# Altium integrated library Analog Devices Interface and Isolation Protection Products.IntLib: 92 symbols (part 5 of 5)
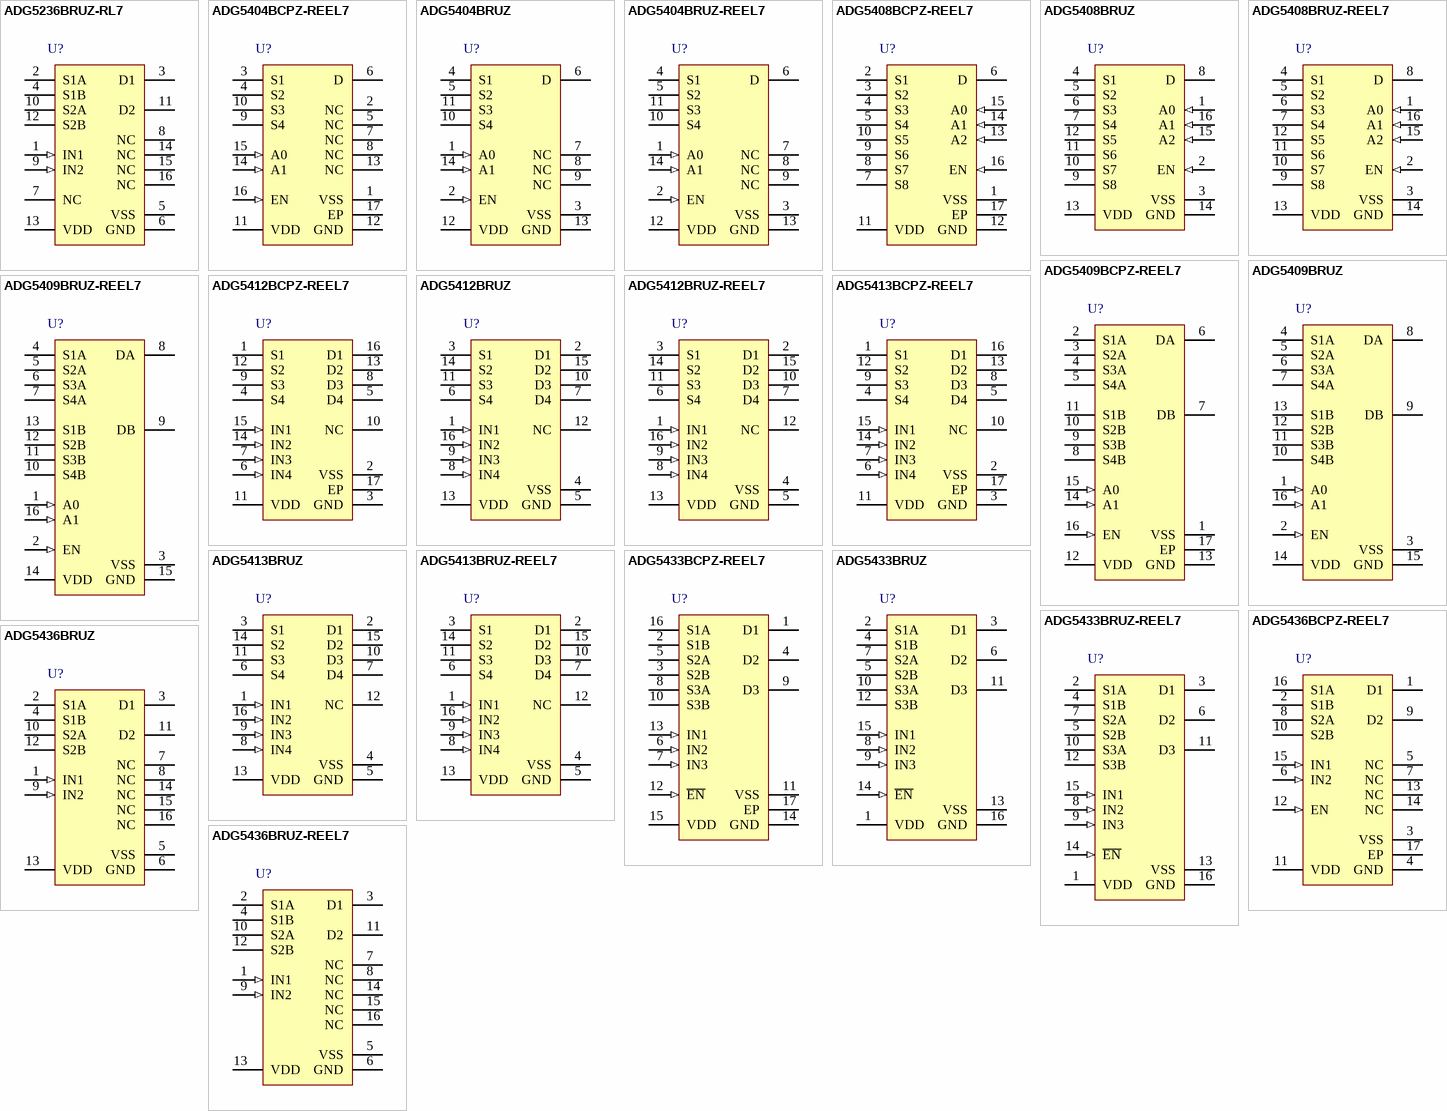
[diagram p6: symbols ADG5236BRUZ-RL7 to ADG5436BRUZ-REEL7]

## ADG5412BCPZ-REEL7
designator U?
High Voltage Latch-Up Proof, Quad SPST Switches, -40 to 125 degC, 16-pin QFN (CP-16-17), Reel; Manufacturer: Analog Devices; PartNumber: ADG5412BCPZ-REEL7; Id, Is (ON): 100pA, 100pA, 100pA, 100pA; Is OFF: 50pA, 50pA, 50pA, 50pA; Power Dissipation: 1mW; Ron (ohms): 9; DatasheetVersion: Rev. A; PackageVersion: 08-16-2010-C; PackageReference: CP-16-17; PackageDescription: 16-Pin Lead Frame Chip Scale Package, Body 4 x 4 mm, Pitch 0.65 mm; Supplier 1: Digi-Key; Supplier Part Number 1: ADG5412BCPZ-REEL7CT-ND; Supplier 2: Digi-Key; Supplier Part Number 2: ADG5412BCPZ-REEL7DKR-ND; Supplier 3: Newark; Supplier Part Number 3: 27T3793; Supplier 4: Newark; Supplier Part Number 4: 92T1801; Supplier 5: Mouser; Supplier Part Number 5: N/A; Configuration: SPST; Packing: Reel; Mounting Technology: Surface Mount; Code_JEDEC: MO-220-WGGC; ComponentLink1Description: Manufacturer URL; ComponentLink1URL: http://www.analog.com/en/index.html; ComponentLink2Description: Datasheet; ComponentLink2URL: http://www.analog.com/static/imported-files/data_sheets/ADG5412_5413.pdf; ComponentLink3Description: Package Specification; ComponentLink3URL: http://www.analog.com/static/imported-files/packages/PKG_PDF/LFCSP(CP)/CP_16_17.pdf
footprint ADI-CP-16-17_N (QFN, 16-Leads, Body 4x4mm, Pitch 0.65mm, Thermal Pad 2.60x2.60mm, IPC Medium Density)
footprint ADI-CP-16-17_L (QFN, 16-Leads, Body 4x4mm, Pitch 0.65mm, Thermal Pad 2.60x2.60mm, IPC High Density)
footprint ADI-CP-16-17_M (QFN, 16-Leads, Body 4x4mm, Pitch 0.65mm, Thermal Pad 2.60x2.60mm, IPC Low Density)
pins: 1 S1 "Source Terminal 1. This pin can be an input or output.", 2 VSS (power) "Most Negative Power Supply Potential.", 3 GND (power) "Ground (0 V) Reference.", 4 S4 "Source Terminal 4. This pin can be an input or output.", 5 D4 "Drain Terminal 4. This pin can be an input or output.", 6 IN4 (in) "Logic Control Input 4.", 7 IN3 (in) "Logic Control Input 3.", 8 D3 "Drain Terminal 3. This pin can be an input or output.", 9 S3 "Source Terminal 3. This pin can be an input or output.", 10 NC "No Connection.", 11 VDD (power) "Most Positive Power Supply Potential.", 12 S2 "Source Terminal 2. This pin can be an input or output.", 13 D2 "Drain Terminal 2. This pin can be an input or output.", 14 IN2 (in) "Logic Control Input 2.", 15 IN1 (in) "Logic Control Input 1.", 16 D1 "Drain Terminal 1. This pin can be an input or output.", 17 EP (power) "The exposed pad is connected internally. For increased reliability of the solder joints and maximum thermal capability, it is recommended that the pad be soldered to the substrate, VSS."

## ADG5412BRUZ
designator U?
High Voltage Latch-Up Proof, Quad SPST Switches, -40 to 125 degC, 16-pin SOP (RU-16), Tube; Manufacturer: Analog Devices; PartNumber: ADG5412BRUZ; Id, Is (ON): 100pA, 100pA, 100pA, 100pA; Is OFF: 50pA, 50pA, 50pA, 50pA; Power Dissipation: 1mW; Ron (ohms): 9; DatasheetVersion: Rev. A; PackageVersion: Nov-02; PackageReference: RU-16; PackageDescription: 16-Pin Thin Shrink Small Outline Package, Body 5 x 4.4 mm, Pitch 0.65 mm; Supplier 1: Digi-Key; Supplier Part Number 1: ADG5412BRUZ-ND; Supplier 2: Farnell; Supplier Part Number 2: 2081057; Supplier 3: Newark; Supplier Part Number 3: 85R6320; Supplier 4: Mouser; Supplier Part Number 4: 584-ADG5412BRUZ; Configuration: SPST; Packing: Tube; Mounting Technology: Surface Mount; Code_JEDEC: MO-153AB; ComponentLink1Description: Manufacturer URL; ComponentLink1URL: http://www.analog.com/en/index.html; ComponentLink2Description: Datasheet; ComponentLink2URL: http://www.analog.com/static/imported-files/data_sheets/ADG5412_5413.pdf; ComponentLink3Description: Package Specification; ComponentLink3URL: http:/www.analog.com/static/imported-files/packages/36244347913743854010197452789RU16.pdf
footprint ADI-RU-16_N (SOP, 16-Leads, Body 5x4.4mm, Pitch 0.65mm, IPC Medium Density)
footprint ADI-RU-16_L (SOP, 16-Leads, Body 5x4.4mm, Pitch 0.65mm, IPC High Density)
footprint ADI-RU-16_M (SOP, 16-Leads, Body 5x4.4mm, Pitch 0.65mm, IPC Low Density)
pins: 1 IN1 (in) "Logic Control Input 1.", 2 D1 "Drain Terminal 1. This pin can be an input or output.", 3 S1 "Source Terminal 1. This pin can be an input or output.", 4 VSS (power) "Most Negative Power Supply Potential.", 5 GND (power) "Ground (0 V) Reference.", 6 S4 "Source Terminal 4. This pin can be an input or output.", 7 D4 "Drain Terminal 4. This pin can be an input or output.", 8 IN4 (in) "Logic Control Input 4.", 9 IN3 (in) "Logic Control Input 3.", 10 D3 "Drain Terminal 3. This pin can be an input or output.", 11 S3 "Source Terminal 3. This pin can be an input or output.", 12 NC "No Connection.", 13 VDD (power) "Most Positive Power Supply Potential.", 14 S2 "Source Terminal 2. This pin can be an input or output.", 15 D2 "Drain Terminal 2. This pin can be an input or output.", 16 IN2 (in) "Logic Control Input 2."

## ADG5412BRUZ-REEL7
designator U?
High Voltage Latch-Up Proof, Quad SPST Switches, -40 to 125 degC, 16-pin SOP (RU-16), Reel; Manufacturer: Analog Devices; PartNumber: ADG5412BRUZ-REEL7; Id, Is (ON): 100pA, 100pA, 100pA, 100pA; Is OFF: 50pA, 50pA, 50pA, 50pA; Power Dissipation: 1mW; Ron (ohms): 9; DatasheetVersion: Rev. A; PackageVersion: Nov-02; PackageReference: RU-16; PackageDescription: 16-Pin Thin Shrink Small Outline Package, Body 5 x 4.4 mm, Pitch 0.65 mm; Supplier 1: Digi-Key; Supplier Part Number 1: ADG5412BRUZ-REEL7TR-ND; Supplier 2: Digi-Key; Supplier Part Number 2: ADG5412BRUZ-REEL7CT-ND; Supplier 3: Digi-Key; Supplier Part Number 3: ADG5412BRUZ-REEL7DKR-ND; Supplier 4: Farnell; Supplier Part Number 4: 2102712; Supplier 5: Newark; Supplier Part Number 5: 92T1802; Supplier 6: Newark; Supplier Part Number 6: 85R6321; Supplier 7: Mouser; Supplier Part Number 7: 584-ADG5412BRUZ-R7; Configuration: SPST; Packing: Reel; Mounting Technology: Surface Mount; Code_JEDEC: MO-153AB; ComponentLink1Description: Manufacturer URL; ComponentLink1URL: http://www.analog.com/en/index.html; ComponentLink2Description: Datasheet; ComponentLink2URL: http://www.analog.com/static/imported-files/data_sheets/ADG5412_5413.pdf; ComponentLink3Description: Package Specification; ComponentLink3URL: http:/www.analog.com/static/imported-files/packages/36244347913743854010197452789RU16.pdf
footprint ADI-RU-16_N (SOP, 16-Leads, Body 5x4.4mm, Pitch 0.65mm, IPC Medium Density)
footprint ADI-RU-16_L (SOP, 16-Leads, Body 5x4.4mm, Pitch 0.65mm, IPC High Density)
footprint ADI-RU-16_M (SOP, 16-Leads, Body 5x4.4mm, Pitch 0.65mm, IPC Low Density)
pins: 1 IN1 (in) "Logic Control Input 1.", 2 D1 "Drain Terminal 1. This pin can be an input or output.", 3 S1 "Source Terminal 1. This pin can be an input or output.", 4 VSS (power) "Most Negative Power Supply Potential.", 5 GND (power) "Ground (0 V) Reference.", 6 S4 "Source Terminal 4. This pin can be an input or output.", 7 D4 "Drain Terminal 4. This pin can be an input or output.", 8 IN4 (in) "Logic Control Input 4.", 9 IN3 (in) "Logic Control Input 3.", 10 D3 "Drain Terminal 3. This pin can be an input or output.", 11 S3 "Source Terminal 3. This pin can be an input or output.", 12 NC "No Connection.", 13 VDD (power) "Most Positive Power Supply Potential.", 14 S2 "Source Terminal 2. This pin can be an input or output.", 15 D2 "Drain Terminal 2. This pin can be an input or output.", 16 IN2 (in) "Logic Control Input 2."

## ADG5413BCPZ-REEL7
designator U?
High Voltage Latch-Up Proof,Quad SPST Switches, -40 to 125 degC, 16-pin QFN (CP-16-17), Reel; Manufacturer: Analog Devices; PartNumber: ADG5413BCPZ-REEL7; Id, Is (ON): 100pA, 100pA, 100pA, 100pA; Is OFF: 50pA, 50pA, 50pA, 50pA; Power Dissipation: 1mW; Ron (ohms): 9; DatasheetVersion: Rev. A; PackageVersion: 08-16-2010-C; PackageReference: CP-16-17; PackageDescription: 16-Pin Lead Frame Chip Scale Package, Body 4 x 4 mm, Pitch 0.65 mm; Supplier 1: Digi-Key; Supplier Part Number 1: ADG5413BCPZ-REEL7CT-ND; Supplier 2: Digi-Key; Supplier Part Number 2: ADG5413BCPZ-REEL7DKR-ND; Supplier 3: Farnell; Supplier Part Number 3: 2102713; Supplier 4: Newark; Supplier Part Number 4: 92T1803; Supplier 5: Newark; Supplier Part Number 5: 27T3794; Supplier 6: Mouser; Supplier Part Number 6: N/A; Configuration: SPST; Packing: Reel; Mounting Technology: Surface Mount; Code_JEDEC: MO-220-WGGC; ComponentLink1Description: Manufacturer URL; ComponentLink1URL: http://www.analog.com/en/index.html; ComponentLink2Description: Datasheet; ComponentLink2URL: http://www.analog.com/static/imported-files/data_sheets/ADG5412_5413.pdf; ComponentLink3Description: Package Specification; ComponentLink3URL: http://www.analog.com/static/imported-files/packages/PKG_PDF/LFCSP(CP)/CP_16_17.pdf
footprint ADI-CP-16-17_N (QFN, 16-Leads, Body 4x4mm, Pitch 0.65mm, Thermal Pad 2.60x2.60mm, IPC Medium Density)
footprint ADI-CP-16-17_L (QFN, 16-Leads, Body 4x4mm, Pitch 0.65mm, Thermal Pad 2.60x2.60mm, IPC High Density)
footprint ADI-CP-16-17_M (QFN, 16-Leads, Body 4x4mm, Pitch 0.65mm, Thermal Pad 2.60x2.60mm, IPC Low Density)
pins: 1 S1 "Source Terminal 1. This pin can be an input or output.", 2 VSS (power) "Most Negative Power Supply Potential.", 3 GND (power) "Ground (0 V) Reference.", 4 S4 "Source Terminal 4. This pin can be an input or output.", 5 D4 "Drain Terminal 4. This pin can be an input or output.", 6 IN4 (in) "Logic Control Input 4.", 7 IN3 (in) "Logic Control Input 3.", 8 D3 "Drain Terminal 3. This pin can be an input or output.", 9 S3 "Source Terminal 3. This pin can be an input or output.", 10 NC "No Connection.", 11 VDD (power) "Most Positive Power Supply Potential.", 12 S2 "Source Terminal 2. This pin can be an input or output.", 13 D2 "Drain Terminal 2. This pin can be an input or output.", 14 IN2 (in) "Logic Control Input 2.", 15 IN1 (in) "Logic Control Input 1.", 16 D1 "Drain Terminal 1. This pin can be an input or output.", 17 EP (power) "The exposed pad is connected internally. For increased reliability of the solder joints and maximum thermal capability, it is recommended that the pad be soldered to the substrate, VSS."

## ADG5413BRUZ
designator U?
High Voltage Latch-Up Proof,Quad SPST Switches, -40 to 125 degC, 16-pin SOP (RU-16), Tube; Manufacturer: Analog Devices; PartNumber: ADG5413BRUZ; Id, Is (ON): 100pA, 100pA, 100pA, 100pA; Is OFF: 50pA, 50pA, 50pA, 50pA; Power Dissipation: 1mW; Ron (ohms): 9; DatasheetVersion: Rev. A; PackageVersion: Nov-02; PackageReference: RU-16; PackageDescription: 16-Pin Thin Shrink Small Outline Package, Body 5 x 4.4 mm, Pitch 0.65 mm; Supplier 1: Digi-Key; Supplier Part Number 1: ADG5413BRUZ-ND; Supplier 2: Farnell; Supplier Part Number 2: 2081056; Supplier 3: Newark; Supplier Part Number 3: 85R6322; Supplier 4: Mouser; Supplier Part Number 4: 584-ADG5413BRUZ; Configuration: SPST; Packing: Tube; Mounting Technology: Surface Mount; Code_JEDEC: MO-153AB; ComponentLink1Description: Manufacturer URL; ComponentLink1URL: http://www.analog.com/en/index.html; ComponentLink2Description: Datasheet; ComponentLink2URL: http://www.analog.com/static/imported-files/data_sheets/ADG5412_5413.pdf; ComponentLink3Description: Package Specification; ComponentLink3URL: http:/www.analog.com/static/imported-files/packages/36244347913743854010197452789RU16.pdf
footprint ADI-RU-16_N (SOP, 16-Leads, Body 5x4.4mm, Pitch 0.65mm, IPC Medium Density)
footprint ADI-RU-16_L (SOP, 16-Leads, Body 5x4.4mm, Pitch 0.65mm, IPC High Density)
footprint ADI-RU-16_M (SOP, 16-Leads, Body 5x4.4mm, Pitch 0.65mm, IPC Low Density)
pins: 1 IN1 (in) "Logic Control Input 1.", 2 D1 "Drain Terminal 1. This pin can be an input or output.", 3 S1 "Source Terminal 1. This pin can be an input or output.", 4 VSS (power) "Most Negative Power Supply Potential.", 5 GND (power) "Ground (0 V) Reference.", 6 S4 "Source Terminal 4. This pin can be an input or output.", 7 D4 "Drain Terminal 4. This pin can be an input or output.", 8 IN4 (in) "Logic Control Input 4.", 9 IN3 (in) "Logic Control Input 3.", 10 D3 "Drain Terminal 3. This pin can be an input or output.", 11 S3 "Source Terminal 3. This pin can be an input or output.", 12 NC "No Connection.", 13 VDD (power) "Most Positive Power Supply Potential.", 14 S2 "Source Terminal 2. This pin can be an input or output.", 15 D2 "Drain Terminal 2. This pin can be an input or output.", 16 IN2 (in) "Logic Control Input 2."

## ADG5413BRUZ-REEL7
designator U?
High Voltage Latch-Up Proof,Quad SPST Switches, -40 to 125 degC, 16-pin SOP (RU-16), Reel; Manufacturer: Analog Devices; PartNumber: ADG5413BRUZ-REEL7; Id, Is (ON): 100pA, 100pA, 100pA, 100pA; Is OFF: 50pA, 50pA, 50pA, 50pA; Power Dissipation: 1mW; Ron (ohms): 9; DatasheetVersion: Rev. A; PackageVersion: Nov-02; PackageReference: RU-16; PackageDescription: 16-Pin Thin Shrink Small Outline Package, Body 5 x 4.4 mm, Pitch 0.65 mm; Supplier 1: Digi-Key; Supplier Part Number 1: ADG5413BRUZ-REEL7-ND; Supplier 2: Farnell; Supplier Part Number 2: 2102714; Supplier 3: Newark; Supplier Part Number 3: 92T1804; Supplier 4: Newark; Supplier Part Number 4: 85R6323; Supplier 5: Mouser; Supplier Part Number 5: 584-ADG5413BRUZ-R7; Configuration: SPST; Packing: Reel; Mounting Technology: Surface Mount; Code_JEDEC: MO-153AB; ComponentLink1Description: Manufacturer URL; ComponentLink1URL: http://www.analog.com/en/index.html; ComponentLink2Description: Datasheet; ComponentLink2URL: http://www.analog.com/static/imported-files/data_sheets/ADG5412_5413.pdf; ComponentLink3Description: Package Specification; ComponentLink3URL: http:/www.analog.com/static/imported-files/packages/36244347913743854010197452789RU16.pdf
footprint ADI-RU-16_N (SOP, 16-Leads, Body 5x4.4mm, Pitch 0.65mm, IPC Medium Density)
footprint ADI-RU-16_L (SOP, 16-Leads, Body 5x4.4mm, Pitch 0.65mm, IPC High Density)
footprint ADI-RU-16_M (SOP, 16-Leads, Body 5x4.4mm, Pitch 0.65mm, IPC Low Density)
pins: 1 IN1 (in) "Logic Control Input 1.", 2 D1 "Drain Terminal 1. This pin can be an input or output.", 3 S1 "Source Terminal 1. This pin can be an input or output.", 4 VSS (power) "Most Negative Power Supply Potential.", 5 GND (power) "Ground (0 V) Reference.", 6 S4 "Source Terminal 4. This pin can be an input or output.", 7 D4 "Drain Terminal 4. This pin can be an input or output.", 8 IN4 (in) "Logic Control Input 4.", 9 IN3 (in) "Logic Control Input 3.", 10 D3 "Drain Terminal 3. This pin can be an input or output.", 11 S3 "Source Terminal 3. This pin can be an input or output.", 12 NC "No Connection.", 13 VDD (power) "Most Positive Power Supply Potential.", 14 S2 "Source Terminal 2. This pin can be an input or output.", 15 D2 "Drain Terminal 2. This pin can be an input or output.", 16 IN2 (in) "Logic Control Input 2."

## ADG5433BCPZ-REEL7
designator U?
High Voltage Latch-Up Proof, Triple SPDT Switches, 12.5 Ohm Ron, 16-pin QFN (CP-16-17), Reel; Manufacturer: Analog Devices; PartNumber: ADG5433BCPZ-REEL7; # Sw Functions: 3; Max Neg Supply: -22V; Max Pos Supply: +40V; Ron (ohms): 13.5, 12.5, 26, 14.5; t ON: 160ns, 152ns, 228ns, 176ns; DatasheetVersion: Rev. B; PackageVersion: 08-16-2010-C; PackageReference: CP-16-17; PackageDescription: 16-Pin Lead Frame Chip Scale Package, Body 4 x 4 mm, Pitch 0.65 mm; Supplier 1: Digi-Key; Supplier Part Number 1: ADG5433BCPZ-REEL7CT-ND; Supplier 2: Digi-Key; Supplier Part Number 2: ADG5433BCPZ-REEL7DKR-ND; Supplier 3: Farnell; Supplier Part Number 3: 2102715; Supplier 4: Newark; Supplier Part Number 4: 27T3795; Supplier 5: Newark; Supplier Part Number 5: 92T1805; Supplier 6: Mouser; Supplier Part Number 6: N/A; Configuration: SPDT; Packing: Reel; Mounting Technology: Surface Mount; Code_JEDEC: MO-220-WGGC; ComponentLink1Description: Manufacturer URL; ComponentLink1URL: http://www.analog.com/en/index.html; ComponentLink2Description: Datasheet; ComponentLink2URL: http://www.analog.com/static/imported-files/data_sheets/ADG5433_5434.pdf; ComponentLink3Description: Package Specification; ComponentLink3URL: http://www.analog.com/static/imported-files/packages/PKG_PDF/LFCSP(CP)/CP_16_17.pdf
footprint ADI-CP-16-17_N (QFN, 16-Leads, Body 4x4mm, Pitch 0.65mm, Thermal Pad 2.60x2.60mm, IPC Medium Density)
footprint ADI-CP-16-17_L (QFN, 16-Leads, Body 4x4mm, Pitch 0.65mm, Thermal Pad 2.60x2.60mm, IPC High Density)
footprint ADI-CP-16-17_M (QFN, 16-Leads, Body 4x4mm, Pitch 0.65mm, Thermal Pad 2.60x2.60mm, IPC Low Density)
pins: 1 D1 "Drain Terminal 1. This pin can be an input or an output.", 2 S1B "Source Terminal 1B. This pin can be an input or an output.", 3 S2B "Source Terminal 1B. This pin can be an input or an output.", 4 D2 "Drain Terminal 1. This pin can be an input or an output.", 5 S2A "Source Terminal 1A. This pin can be an input or an output.", 6 IN2 (in) "Logic Control Input 2.", 7 IN3 (in) "Logic Control Input 3.", 8 S3A "Source Terminal 1A. This pin can be an input or an output.", 9 D3 "Drain Terminal 1. This pin can be an input or an output.", 10 S3B "Source Terminal 1B. This pin can be an input or an output.", 11 VSS (power) "Most Negative Power Supply Potential. In single-supply applications, this pin can be connected to ground.", 12 ~{EN} (in) "Active High Digital Input. When low, the device is disabled and all switches are off. When high, Ax logic inputs determine on switches.", 13 IN1 (in) "Logic Control Input 1.", 14 GND (power) "Ground (0 V) Reference.", 15 VDD (power) "Most Positive Power Supply Potential.", 16 S1A "Source Terminal 1A. This pin can be an input or an output.", 17 EP (power) "The exposed pad is connected internally. For increased reliability of the solder joints and maximum thermal capability, it is recommended that the pad be soldered to the substrate, VSS."

## ADG5433BRUZ
designator U?
High Voltage Latch-Up Proof, Triple SPDT Switches, 12.5 Ohm Ron, 16-pin SOP (RU-16), Tube; Manufacturer: Analog Devices; PartNumber: ADG5433BRUZ; # Sw Functions: 3; Max Neg Supply: -22V; Max Pos Supply: +40V; Ron (ohms): 13.5, 12.5, 26, 14.5; t ON: 160ns, 152ns, 228ns, 176ns; DatasheetVersion: Rev. B; PackageVersion: Nov-02; PackageReference: RU-16; PackageDescription: 16-Pin Thin Shrink Small Outline Package, Body 5 x 4.4 mm, Pitch 0.65 mm; Supplier 1: Digi-Key; Supplier Part Number 1: ADG5433BRUZ-ND; Supplier 2: Farnell; Supplier Part Number 2: 2081058; Supplier 3: Newark; Supplier Part Number 3: 18T1964; Supplier 4: Mouser; Supplier Part Number 4: 584-ADG5433BRUZ; Configuration: SPDT; Packing: Tube; Mounting Technology: Surface Mount; Code_JEDEC: MO-153AB; ComponentLink1Description: Manufacturer URL; ComponentLink1URL: http://www.analog.com/en/index.html; ComponentLink2Description: Datasheet; ComponentLink2URL: http://www.analog.com/static/imported-files/data_sheets/ADG5433_5434.pdf; ComponentLink3Description: Package Specification; ComponentLink3URL: http:/www.analog.com/static/imported-files/packages/36244347913743854010197452789RU16.pdf
footprint ADI-RU-16_N (SOP, 16-Leads, Body 5x4.4mm, Pitch 0.65mm, IPC Medium Density)
footprint ADI-RU-16_L (SOP, 16-Leads, Body 5x4.4mm, Pitch 0.65mm, IPC High Density)
footprint ADI-RU-16_M (SOP, 16-Leads, Body 5x4.4mm, Pitch 0.65mm, IPC Low Density)
pins: 1 VDD (power) "Most Positive Power Supply Potential.", 2 S1A "Source Terminal 1A. This pin can be an input or an output.", 3 D1 "Drain Terminal 1. This pin can be an input or an output.", 4 S1B "Source Terminal 1B. This pin can be an input or an output.", 5 S2B "Source Terminal 2B. This pin can be an input or an output.", 6 D2 "Drain Terminal 2. This pin can be an input or an output.", 7 S2A "Source Terminal 2A. This pin can be an input or an output.", 8 IN2 (in) "Logic Control Input 2.", 9 IN3 (in) "Logic Control Input 3.", 10 S3A "Source Terminal 3A. This pin can be an input or an output.", 11 D3 "Drain Terminal 3. This pin can be an input or an output.", 12 S3B "Source Terminal 3B. This pin can be an input or an output.", 13 VSS (power) "Most Negative Power Supply Potential. In single-supply applications, this pin can be connected to ground.", 14 ~{EN} (in) "Active Low Digital Input. When high, the device is disabled and all switches are off. When low, INx logic inputs determine the on switches.", 15 IN1 (in) "Logic Control Input 1.", 16 GND (power) "Ground (0 V) Reference."

## ADG5433BRUZ-REEL7
designator U?
High Voltage Latch-Up Proof, Triple SPDT Switches, 12.5 Ohm Ron, 16-pin SOP (RU-16), Reel; Manufacturer: Analog Devices; PartNumber: ADG5433BRUZ-REEL7; # Sw Functions: 3; Max Neg Supply: -22V; Max Pos Supply: +40V; Ron (ohms): 13.5, 12.5, 26, 14.5; t ON: 160ns, 152ns, 228ns, 176ns; DatasheetVersion: Rev. B; PackageVersion: Nov-02; PackageReference: RU-16; PackageDescription: 16-Pin Thin Shrink Small Outline Package, Body 5 x 4.4 mm, Pitch 0.65 mm; Supplier 1: Farnell; Supplier Part Number 1: 2102716; Supplier 2: Newark; Supplier Part Number 2: 18T1965; Supplier 3: Newark; Supplier Part Number 3: 92T1806; Supplier 4: Mouser; Supplier Part Number 4: 584-ADG5433BRUZ-R7; Configuration: SPDT; Packing: Reel; Mounting Technology: Surface Mount; Code_JEDEC: MO-153AB; ComponentLink1Description: Manufacturer URL; ComponentLink1URL: http://www.analog.com/en/index.html; ComponentLink2Description: Datasheet; ComponentLink2URL: http://www.analog.com/static/imported-files/data_sheets/ADG5433_5434.pdf; ComponentLink3Description: Package Specification; ComponentLink3URL: http:/www.analog.com/static/imported-files/packages/36244347913743854010197452789RU16.pdf
footprint ADI-RU-16_N (SOP, 16-Leads, Body 5x4.4mm, Pitch 0.65mm, IPC Medium Density)
footprint ADI-RU-16_L (SOP, 16-Leads, Body 5x4.4mm, Pitch 0.65mm, IPC High Density)
footprint ADI-RU-16_M (SOP, 16-Leads, Body 5x4.4mm, Pitch 0.65mm, IPC Low Density)
pins: 1 VDD (power) "Most Positive Power Supply Potential.", 2 S1A "Source Terminal 1A. This pin can be an input or an output.", 3 D1 "Drain Terminal 1. This pin can be an input or an output.", 4 S1B "Source Terminal 1B. This pin can be an input or an output.", 5 S2B "Source Terminal 2B. This pin can be an input or an output.", 6 D2 "Drain Terminal 2. This pin can be an input or an output.", 7 S2A "Source Terminal 2A. This pin can be an input or an output.", 8 IN2 (in) "Logic Control Input 2.", 9 IN3 (in) "Logic Control Input 3.", 10 S3A "Source Terminal 3A. This pin can be an input or an output.", 11 D3 "Drain Terminal 3. This pin can be an input or an output.", 12 S3B "Source Terminal 3B. This pin can be an input or an output.", 13 VSS (power) "Most Negative Power Supply Potential. In single-supply applications, this pin can be connected to ground.", 14 ~{EN} (in) "Active Low Digital Input. When high, the device is disabled and all switches are off. When low, INx logic inputs determine the on switches.", 15 IN1 (in) "Logic Control Input 1.", 16 GND (power) "Ground (0 V) Reference."

## ADG5436BCPZ-REEL7
designator U?
High Voltage Latch-Up Proof, Dual SPDT Switches, -40 to 125 degC, 16-pin QFN (CP-16-17), Reel; Manufacturer: Analog Devices; PartNumber: ADG5436BCPZ-REEL7; Bandwidth (Hz): 100M; Max Analog Signal Range: Vss to Vdd; Ron (ohms): 9; Supply V Guar Performance: Dual_(+/-15V), Dual_(+/-20V), Single_(+12V), Single_(+36V); t transition (s): 158n; DatasheetVersion: Rev. A; PackageVersion: 08-16-2010-C; PackageReference: CP-16-17; PackageDescription: 16-Pin Lead Frame Chip Scale Package, Body 4 x 4 mm, Pitch 0.65 mm; Supplier 1: Digi-Key; Supplier Part Number 1: ADG5436BCPZ-REEL7CT-ND; Supplier 2: Digi-Key; Supplier Part Number 2: ADG5436BCPZ-REEL7DKR-ND; Supplier 3: Farnell; Supplier Part Number 3: 2369156; Supplier 4: Farnell; Supplier Part Number 4: 2102719; Supplier 5: Newark; Supplier Part Number 5: 27T3796; Supplier 6: Newark; Supplier Part Number 6: 92T1808; Supplier 7: Mouser; Supplier Part Number 7: N/A; Packing: Reel; Mounting Technology: Surface Mount; Code_JEDEC: MO-220-WGGC; ComponentLink1Description: Manufacturer URL; ComponentLink1URL: http://www.analog.com/en/index.html; ComponentLink2Description: Datasheet; ComponentLink2URL: http://www.analog.com/static/imported-files/data_sheets/ADG5436.pdf; ComponentLink3Description: Package Specification; ComponentLink3URL: http://www.analog.com/static/imported-files/packages/PKG_PDF/LFCSP(CP)/CP_16_17.pdf
footprint ADI-CP-16-17_N (QFN, 16-Leads, Body 4x4mm, Pitch 0.65mm, Thermal Pad 2.60x2.60mm, IPC Medium Density)
footprint ADI-CP-16-17_L (QFN, 16-Leads, Body 4x4mm, Pitch 0.65mm, Thermal Pad 2.60x2.60mm, IPC High Density)
footprint ADI-CP-16-17_M (QFN, 16-Leads, Body 4x4mm, Pitch 0.65mm, Thermal Pad 2.60x2.60mm, IPC Low Density)
pins: 1 D1 "Drain Terminal 1. This pin can be an input or output.", 2 S1B "Source Terminal 1B. This pin can be an input or output.", 3 VSS (power) "Most Negative Power Supply Potential.", 4 GND (power) "Ground (0 V) Reference.", 5 NC "No Connect.", 6 IN2 (in) "Logic Control Input 2.", 7 NC "No Connect.", 8 S2A "Source Terminal 2A. This pin can be an input or output.", 9 D2 "Drain Terminal 2. This pin can be an input or output.", 10 S2B "Source Terminal 2B. This pin can be an input or output.", 11 VDD (power) "Most Positive Power Supply Potential.", 12 EN (in) "Active High Digital Input. When this pin is low, the device is disabled and all switches are off. When this pin is high, INx logic inputs determine the on switches.", 13 NC "No Connect.", 14 NC "No Connect.", 15 IN1 (in) "Logic Control Input 1.", 16 S1A "Source Terminal 1A. This pin can be an input or output", 17 EP (power) "The exposed pad is connected internally. For increased reliability of the solder joints and maximum thermal capability, it is recommended that the pad be soldered to the substrate, VSS."

## ADG5436BRUZ
designator U?
High Voltage Latch-Up Proof, Dual SPDT Switches, -40 to 125 degC, 16-pin SOP (RU-16), Tube; Manufacturer: Analog Devices; PartNumber: ADG5436BRUZ; Bandwidth (Hz): 100M; Max Analog Signal Range: Vss to Vdd; Ron (ohms): 9; Supply V Guar Performance: Dual_(+/-15V), Dual_(+/-20V), Single_(+12V), Single_(+36V); t transition (s): 158n; DatasheetVersion: Rev. A; PackageVersion: Nov-02; PackageReference: RU-16; PackageDescription: 16-Pin Thin Shrink Small Outline Package, Body 5 x 4.4 mm, Pitch 0.65 mm; Supplier 1: Digi-Key; Supplier Part Number 1: ADG5436BRUZ-ND; Supplier 2: Farnell; Supplier Part Number 2: 2081054; Supplier 3: Newark; Supplier Part Number 3: 85R6324; Supplier 4: Mouser; Supplier Part Number 4: 584-ADG5436BRUZ; Packing: Tube; Mounting Technology: Surface Mount; Code_JEDEC: MO-153AB; ComponentLink1Description: Manufacturer URL; ComponentLink1URL: http://www.analog.com/en/index.html; ComponentLink2Description: Datasheet; ComponentLink2URL: http://www.analog.com/static/imported-files/data_sheets/ADG5436.pdf; ComponentLink3Description: Package Specification; ComponentLink3URL: http:/www.analog.com/static/imported-files/packages/36244347913743854010197452789RU16.pdf
footprint ADI-RU-16_N (SOP, 16-Leads, Body 5x4.4mm, Pitch 0.65mm, IPC Medium Density)
footprint ADI-RU-16_L (SOP, 16-Leads, Body 5x4.4mm, Pitch 0.65mm, IPC High Density)
footprint ADI-RU-16_M (SOP, 16-Leads, Body 5x4.4mm, Pitch 0.65mm, IPC Low Density)
pins: 1 IN1 (in) "Logic Control Input 1.", 2 S1A "Source Terminal 1A. This pin can be an input or output.", 3 D1 "Drain Terminal 1. This pin can be an input or output.", 4 S1B "Source Terminal 1B. This pin can be an input or output.", 5 VSS (power) "Most Negative Power Supply Potential.", 6 GND (power) "Ground (0 V) Reference.", 7 NC "No Connect.", 8 NC "No Connect.", 9 IN2 (in) "Logic Control Input 2.", 10 S2A "Source Terminal 2A. This pin can be an input or output.", 11 D2 "Drain Terminal 2. This pin can be an input or output.", 12 S2B "Source Terminal 2B. This pin can be an input or output.", 13 VDD (power) "Most Positive Power Supply Potential.", 14 NC "No Connect.", 15 NC "No Connect.", 16 NC "No Connect."

## ADG5436BRUZ-REEL7
designator U?
High Voltage Latch-Up Proof, Dual SPDT Switches, -40 to 125 degC, 16-pin SOP (RU-16), Reel; Manufacturer: Analog Devices; PartNumber: ADG5436BRUZ-REEL7; Bandwidth (Hz): 100M; Max Analog Signal Range: Vss to Vdd; Ron (ohms): 9; Supply V Guar Performance: Dual_(+/-15V), Dual_(+/-20V), Single_(+12V), Single_(+36V); t transition (s): 158n; DatasheetVersion: Rev. A; PackageVersion: Nov-02; PackageReference: RU-16; PackageDescription: 16-Pin Thin Shrink Small Outline Package, Body 5 x 4.4 mm, Pitch 0.65 mm; Supplier 1: Digi-Key; Supplier Part Number 1: ADG5436BRUZ-REEL7-ND; Supplier 2: Mouser; Supplier Part Number 2: 584-ADG5436BRUZ-R7; Packing: Reel; Mounting Technology: Surface Mount; Code_JEDEC: MO-153AB; ComponentLink1Description: Manufacturer URL; ComponentLink1URL: http://www.analog.com/en/index.html; ComponentLink2Description: Datasheet; ComponentLink2URL: http://www.analog.com/static/imported-files/data_sheets/ADG5436.pdf; ComponentLink3Description: Package Specification; ComponentLink3URL: http:/www.analog.com/static/imported-files/packages/36244347913743854010197452789RU16.pdf
footprint ADI-RU-16_N (SOP, 16-Leads, Body 5x4.4mm, Pitch 0.65mm, IPC Medium Density)
footprint ADI-RU-16_L (SOP, 16-Leads, Body 5x4.4mm, Pitch 0.65mm, IPC High Density)
footprint ADI-RU-16_M (SOP, 16-Leads, Body 5x4.4mm, Pitch 0.65mm, IPC Low Density)
pins: 1 IN1 (in) "Logic Control Input 1.", 2 S1A "Source Terminal 1A. This pin can be an input or output.", 3 D1 "Drain Terminal 1. This pin can be an input or output.", 4 S1B "Source Terminal 1B. This pin can be an input or output.", 5 VSS (power) "Most Negative Power Supply Potential.", 6 GND (power) "Ground (0 V) Reference.", 7 NC "No Connect.", 8 NC "No Connect.", 9 IN2 (in) "Logic Control Input 2.", 10 S2A "Source Terminal 2A. This pin can be an input or output.", 11 D2 "Drain Terminal 2. This pin can be an input or output.", 12 S2B "Source Terminal 2B. This pin can be an input or output.", 13 VDD (power) "Most Positive Power Supply Potential.", 14 NC "No Connect.", 15 NC "No Connect.", 16 NC "No Connect."